# Altium schematic symbol library ECS-100AX-080.SchLib: 1 symbol
Pins are listed as number, name and electrical type; pins without a type are passive.

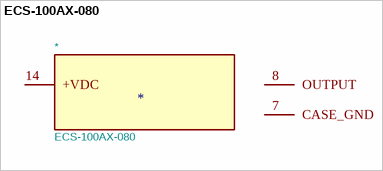
[diagram p0: symbol ECS-100AX-080]

## ECS-100AX-080
designator *  value ECS-100AX-080
MANUFACTURER: ECS Inc.; Footprint: ECS-100AX-080:OSC_ECS-100AX-080; STANDARD: MANUFACTURER RECOMMENDATIONS
footprint OSC_ECS-100AX-080
pins: 7 CASE_GND, 8 OUTPUT, 14 +VDC